# Altium schematic symbol library SCH - MCU - NUVOTON - NUVOTON NANO102SC2AN.SchLib: 1 symbol
Pins are listed as number, name and electrical type; pins without a type are passive.

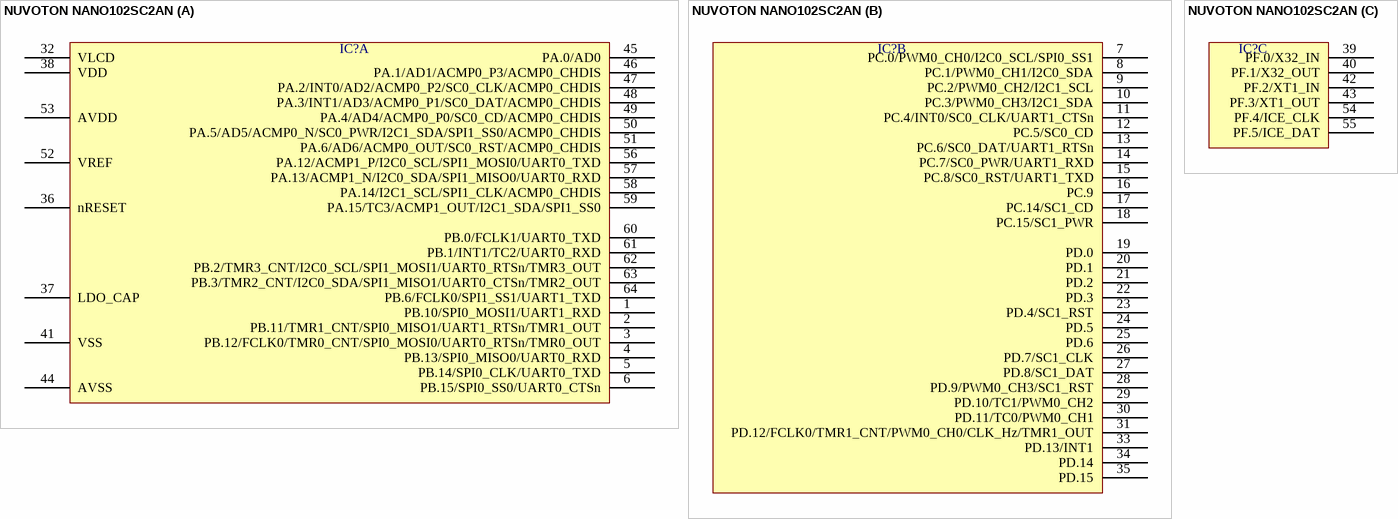
[diagram p0: symbol NUVOTON NANO102SC2AN]

## NUVOTON NANO102SC2AN
designator IC?  (value not drawn)
part A pins: 1 PB.10/SPI0_MOSI1/UART1_RXD, 2 PB.11/TMR1_CNT/SPI0_MISO1/UART1_RTSn/TMR1_OUT, 3 PB.12/FCLK0/TMR0_CNT/SPI0_MOSI0/UART0_RTSn/TMR0_OUT, 4 PB.13/SPI0_MISO0/UART0_RXD, 5 PB.14/SPI0_CLK/UART0_TXD, 6 PB.15/SPI0_SS0/UART0_CTSn, 32 VLCD, 36 nRESET, 37 LDO_CAP, 38 VDD, 41 VSS, 44 AVSS, 45 PA.0/AD0, 46 PA.1/AD1/ACMP0_P3/ACMP0_CHDIS, 47 PA.2/INT0/AD2/ACMP0_P2/SC0_CLK/ACMP0_CHDIS, 48 PA.3/INT1/AD3/ACMP0_P1/SC0_DAT/ACMP0_CHDIS, 49 PA.4/AD4/ACMP0_P0/SC0_CD/ACMP0_CHDIS, 50 PA.5/AD5/ACMP0_N/SC0_PWR/I2C1_SDA/SPI1_SS0/ACMP0_CHDIS, 51 PA.6/AD6/ACMP0_OUT/SC0_RST/ACMP0_CHDIS, 52 VREF, 53 AVDD, 56 PA.12/ACMP1_P/I2C0_SCL/SPI1_MOSI0/UART0_TXD, 57 PA.13/ACMP1_N/I2C0_SDA/SPI1_MISO0/UART0_RXD, 58 PA.14/I2C1_SCL/SPI1_CLK/ACMP0_CHDIS, 59 PA.15/TC3/ACMP1_OUT/I2C1_SDA/SPI1_SS0, 60 PB.0/FCLK1/UART0_TXD, 61 PB.1/INT1/TC2/UART0_RXD, 62 PB.2/TMR3_CNT/I2C0_SCL/SPI1_MOSI1/UART0_RTSn/TMR3_OUT, 63 PB.3/TMR2_CNT/I2C0_SDA/SPI1_MISO1/UART0_CTSn/TMR2_OUT, 64 PB.6/FCLK0/SPI1_SS1/UART1_TXD
part B pins: 7 PC.0/PWM0_CH0/I2C0_SCL/SPI0_SS1, 8 PC.1/PWM0_CH1/I2C0_SDA, 9 PC.2/PWM0_CH2/I2C1_SCL, 10 PC.3/PWM0_CH3/I2C1_SDA, 11 PC.4/INT0/SC0_CLK/UART1_CTSn, 12 PC.5/SC0_CD, 13 PC.6/SC0_DAT/UART1_RTSn, 14 PC.7/SC0_PWR/UART1_RXD, 15 PC.8/SC0_RST/UART1_TXD, 16 PC.9, 17 PC.14/SC1_CD, 18 PC.15/SC1_PWR, 19 PD.0, 20 PD.1, 21 PD.2, 22 PD.3, 23 PD.4/SC1_RST, 24 PD.5, 25 PD.6, 26 PD.7/SC1_CLK, 27 PD.8/SC1_DAT, 28 PD.9/PWM0_CH3/SC1_RST, 29 PD.10/TC1/PWM0_CH2, 30 PD.11/TC0/PWM0_CH1, 31 PD.12/FCLK0/TMR1_CNT/PWM0_CH0/CLK_Hz/TMR1_OUT, 33 PD.13/INT1, 34 PD.14, 35 PD.15
part C pins: 39 PF.0/X32_IN, 40 PF.1/X32_OUT, 42 PF.2/XT1_IN, 43 PF.3/XT1_OUT, 54 PF.4/ICE_CLK, 55 PF.5/ICE_DAT